# Altium schematic symbol library polishing_machine.SchLib: 6 symbols
Pins are listed as number, name and electrical type; pins without a type are passive.

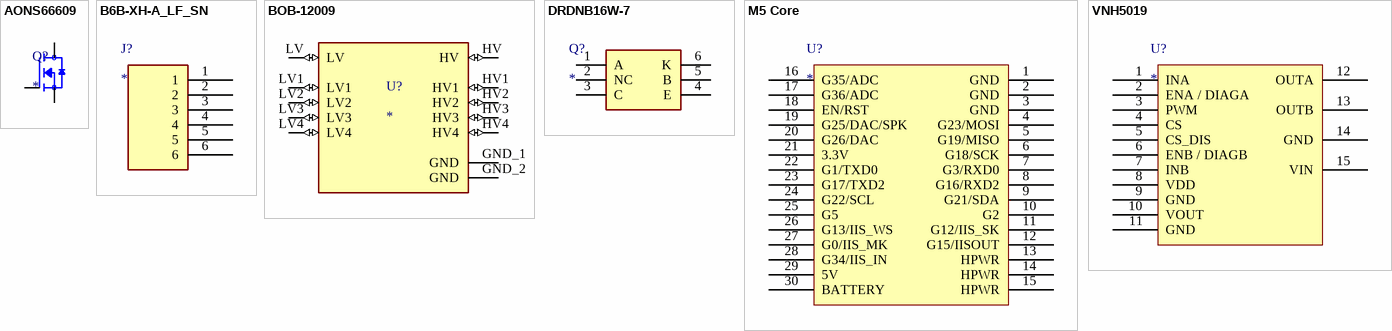
[diagram p0: symbols AONS66609 to VNH5019]

## AONS66609
designator Q?
N-Channel 60 V 10A (Ta), 51A (Tc) 3.1W (Ta), 83W (Tc) Surface Mount 8-PDFN (5.2x5.75); MF: Taiwan Semiconductor; MP: TSM130NB06LCR; SnapEDA_Link: https://www.snapeda.com/parts/TSM130NB06LCR/Taiwan+Semiconductor/view-part/?ref=snap; Package: PDFN56 Taiwan Semiconductor; Value: *; Check_prices: https://www.snapeda.com/parts/TSM130NB06LCR/Taiwan+Semiconductor/view-part/?ref=eda
footprint AONS66609
pins: 1 S, 2 S, 3 S, 4 G, 5_8 D

## B6B-XH-A_LF_SN
designator J?
footprint FP-B6B-XH-A_LF_SN-MFG
pins: 1, 2, 3, 4, 5, 6

## BOB-12009
designator U?
BSS138 Logic-Level Translator Interface Evaluation Board; MP: BOB-12009; MF: SparkFun; Price: None; Availability: Unavailable; SnapEDA_Link: https://www.snapeda.com/parts/BOB-12009/SparkFun%20Electronics/view-part/551764/?ref=snap; Value: *; Package: None
footprint CONV_BOB-12009
pins: GND_1 GND (power), GND_2 GND (power), HV (io), HV1 (io), HV2 (io), HV3 (io), HV4 (io), LV (io), LV1 (io), LV2 (io), LV3 (io), LV4 (io)

## DRDNB16W-7
designator Q?
Transistor BJT NPN; Manufacturer_Name: Diodes Incorporated; Manufacturer_Part_Number: DRDNB16W-7; Datasheet Link: https://www.diodes.com//assets/Datasheets/ds30573.pdf; Height: 1.45mm; Mouser Part Number: 621-DRDNB16W-7; Mouser Price/Stock: https://www.mouser.co.uk/ProductDetail/Diodes-Incorporated/DRDNB16W-7?qs=PvHyF%252BjXmW3ibtWbS7WRtw%3D%3D; Arrow Part Number: DRDNB16W-7; Arrow Price/Stock: https://www.arrow.com/en/products/drdnb16w-7/diodes-incorporated?region=nac
footprint SOT363
pins: 1 A, 2 NC, 3 C, 4 E, 5 B, 6 K

## M5 Core
designator U?
footprint M5 Core
pins: 1 GND, 2 GND, 3 GND, 4 G23/MOSI, 5 G19/MISO, 6 G18/SCK, 7 G3/RXD0, 8 G16/RXD2, 9 G21/SDA, 10 G2, 11 G12/IIS_SK, 12 G15/IISOUT, 13 HPWR, 14 HPWR, 15 HPWR, 16 G35/ADC, 17 G36/ADC, 18 EN/RST, 19 G25/DAC/SPK, 20 G26/DAC, 21 3.3V, 22 G1/TXD0, 23 G17/TXD2, 24 G22/SCL, 25 G5, 26 G13/IIS_WS, 27 G0/IIS_MK, 28 G34/IIS_IN, 29 5V, 30 BATTERY

## VNH5019
designator U?
footprint VNH5019
pins: 1 INA, 2 ENA / DIAGA, 3 PWM, 4 CS, 5 CS_DIS, 6 ENB / DIAGB, 7 INB, 8 VDD, 9 GND, 10 VOUT, 11 GND, 12 OUTA, 13 OUTB, 14 GND, 15 VIN